# Altium footprint library PASSIVE_SMD.PCBLIB: 249 footprints (part 6 of 16)
Each footprint in its own frame and in the unit in brackets; x right, y up, seen from the top. Pads: shape width x height; smd on the part's side, far side on the other; paste and mask are expansions set on the pad; w line width, h text height; cw(c..) or ccw(c..) is an arc to the next point about the centre after c.
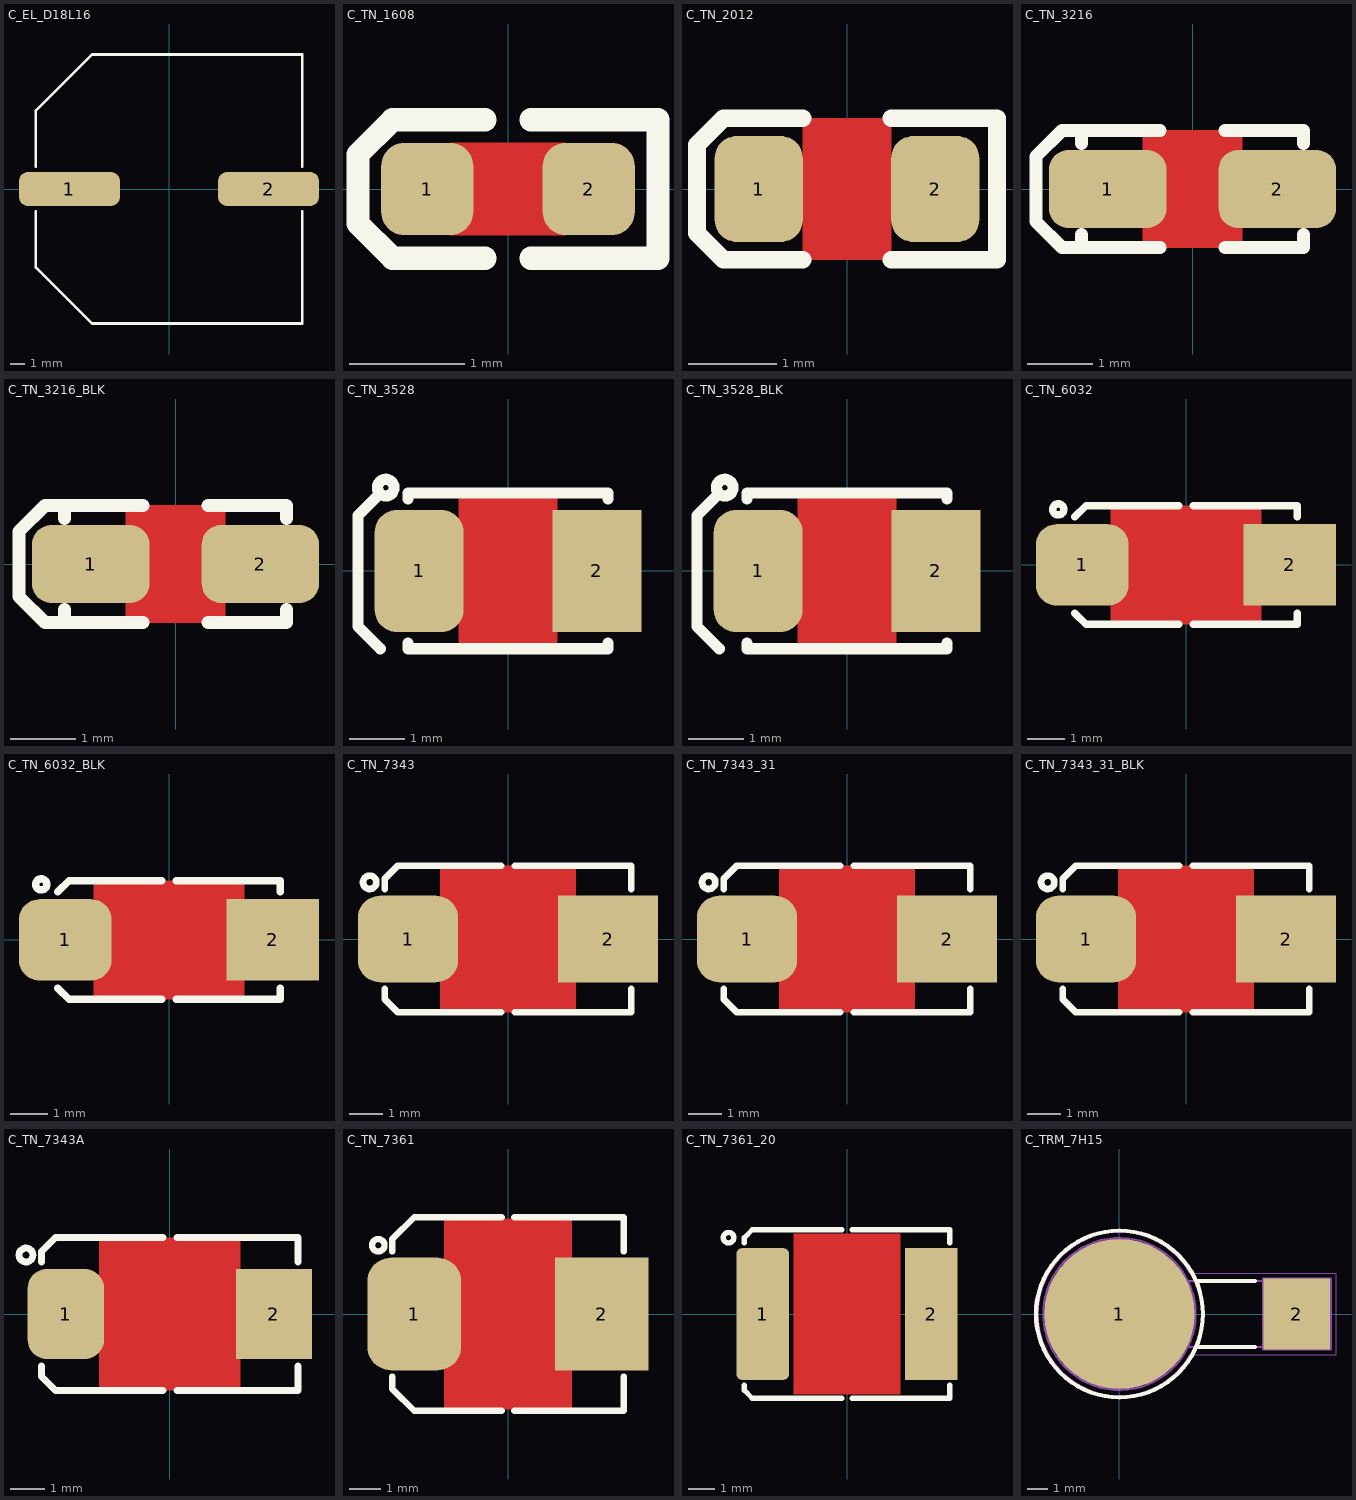
[diagram p5: the footprints below, top view; thin cyan lines are the x and y axes]

## C_EL_D18L16 [mm] "Electrolytic Cap, 18x16.5mm, size K"
height 17
pads (2):
  rrect50% 7.2x2.4 smd: 1(-7.1,0) 2(7.1,0)
Top Overlay:
  lines w0.2: -9.5,-1.6 -9.5,-5.6 -5.5,-9.6 9.5,-9.6 9.5,-1.6 ; -9.5,1.6 -9.5,5.6 -5.5,9.6 9.5,9.6 9.5,1.6
3D body "CAPAE1900X1700N.stp": height 16.5, standoff 0, extent -10.2,-9.5 10.2,9.5

## C_TN_1608 [mm] "CAPACITOR, TAN M, 1.6X0.8mm, 0603"
height 0.6
pads (2):
  rrect50% 0.8x0.8 smd paste-5 mask+0.075: 1(-0.7,0) 2(0.7,0)
Top Layer:
  pour cut-out: -0.5,0.4 0.5,0.4 0.5,-0.4 -0.5,-0.4
Top Overlay:
  lines w0.2: -0.2,-0.6 -1,-0.6 -1.3,-0.3 -1.3,0.3 -1,0.6 -0.2,0.6 ; 0.2,-0.6 1.3,-0.6 1.3,0.6 0.2,0.6
Top Paste:
  region: -0.7,0.35 -0.63,0.35 -0.502,0.297 -0.403,0.198 -0.35,0.07 -0.35,0 -0.35,-0.07 -0.403,-0.198 -0.502,-0.297 -0.63,-0.35 -0.7,-0.35 -0.9,-0.35 -0.93,-0.35 -0.985,-0.327 -1.027,-0.285 -1.05,-0.23 -1.05,-0.2 -1.05,0.2 -1.05,0.23 -1.027,0.285 -0.985,0.327 -0.93,0.35 -0.9,0.35
  region: 0.7,0.35 0.63,0.35 0.502,0.297 0.403,0.198 0.35,0.07 0.35,0 0.35,-0.07 0.403,-0.198 0.502,-0.297 0.63,-0.35 0.7,-0.35 0.9,-0.35 0.93,-0.35 0.985,-0.327 1.027,-0.285 1.05,-0.23 1.05,-0.2 1.05,0.2 1.05,0.23 1.027,0.285 0.985,0.327 0.93,0.35 0.9,0.35
3D body "CAP_TC_M_0603.step": height 0.89, standoff 0, extent -0.851,-0.47 0.851,0.47

## C_TN_2012 [mm] "CAPACITOR, TAN N, TAN P, TAN R, 0805P, 2X1.3mm"
pads (2):
  rrect50% 1x1.2 smd paste-0.089 mask+0.075: 1(-1,0) 2(1,0)
Top Layer:
  pour cut-out: -0.5,0.8 0.5,0.8 0.5,-0.8 -0.5,-0.8
Top Overlay:
  lines w0.2: -0.5,-0.8 -1.4,-0.8 -1.7,-0.5 -1.7,0.5 -1.4,0.8 -0.5,0.8 ; 0.5,-0.8 1.7,-0.8 1.7,0.8 0.5,0.8
3D body "User Library-Tantalum Capacitor Case R.STEP": height 1.35, standoff 0, extent -1.042,-0.685 1.208,0.665

## C_TN_3216 [mm] "CAPACITOR, TAN A, 1206P, 3.2x1.6mm"
height 1.8
pads (2):
  rrect50% 1.8x1.2 smd paste-0.118 mask+0.075: 1(-1.3,0) 2(1.3,0)
Top Layer:
  pour cut-out: -0.762,0.9 0.762,0.9 0.762,-0.9 -0.762,-0.9
Top Overlay:
  lines w0.2: -1.7,-0.7 -1.7,-0.9 ; -1.7,0.7 -1.7,0.9 ; -0.5,-0.9 -1.7,-0.9 ; -0.5,0.9 -1.7,0.9 ; 0.5,-0.9 1.7,-0.9 1.7,-0.7 ; 0.5,0.9 1.7,0.9 1.7,0.7 ; -1.7,-0.9 -2,-0.9 -2.4,-0.5 -2.4,0.5 -2,0.9 -1.7,0.9
3D body "User Library-CAP_TANT_3216-18_A_case-1.step": height 1.7, standoff 0, extent -1.7,-0.9 1.7,0.9

## C_TN_3216_BLK [mm] "CAPACITOR, TAN A, 3.2x1.6mm, BLACK"
height 1.8
pads (2):
  rrect50% 1.8x1.2 smd paste-0.118 mask+0.075: 1(-1.3,0) 2(1.3,0)
Top Layer:
  pour cut-out: -0.762,0.9 0.762,0.9 0.762,-0.9 -0.762,-0.9
Top Overlay:
  lines w0.2: -1.7,-0.7 -1.7,-0.9 ; -1.7,0.7 -1.7,0.9 ; -0.5,-0.9 -1.7,-0.9 ; -0.5,0.9 -1.7,0.9 ; 0.5,-0.9 1.7,-0.9 1.7,-0.7 ; 0.5,0.9 1.7,0.9 1.7,0.7 ; -1.7,-0.9 -2,-0.9 -2.4,-0.5 -2.4,0.5 -2,0.9 -1.7,0.9
3D body "CAPM-TANTA-BK.stp": height 1.8, standoff 0, extent -1.7,-0.9 1.7,0.9

## C_TN_3528 [mm] "CAPACITOR, TAN B, TAN H, TAN T, TAN M, 3528P, 1210P, 3.5X2.8mm"
pads (2):
  rrect50% 1.6x2.2 smd paste-0.152 mask+0.1: 1(-1.6,0)
  rect 1.6x2.2 smd paste-0.151 mask+0.1: 2(1.6,0)
Top Layer:
  pour cut-out: -0.889,1.4 -0.889,-1.4 0.889,-1.4 0.889,1.4
Top Overlay:
  circle w0.2: c-2.2,1.5 r0.15
  lines w0.2: -2.35,1.35 -2.7,1 -2.7,-1 -2.3,-1.4 ; -1.8,-1.3 -1.8,-1.4 1.8,-1.4 1.8,-1.3 ; -1.8,1.3 -1.8,1.4 1.8,1.4 1.8,1.3
3D body "User Library-AVX_BCASE.step": height 2.03, standoff 0, extent -1.85,-1.465 1.85,1.465

## C_TN_3528_BLK [mm] "CAPACITOR, TAN B, 3.5X2.8mm, BLACK"
pads (2):
  rrect50% 1.6x2.2 smd paste-0.152 mask+0.1: 1(-1.6,0)
  rect 1.6x2.2 smd paste-0.151 mask+0.1: 2(1.6,0)
Top Layer:
  pour cut-out: -0.889,1.4 -0.889,-1.4 0.889,-1.4 0.889,1.4
Top Overlay:
  circle w0.2: c-2.2,1.5 r0.15
  lines w0.2: -2.35,1.35 -2.7,1 -2.7,-1 -2.3,-1.4 ; -1.8,-1.3 -1.8,-1.4 1.8,-1.4 1.8,-1.3 ; -1.8,1.3 -1.8,1.4 1.8,1.4 1.8,1.3
3D body "CAPM-TANTB-BK.stp": height 2.1, standoff 0, extent -1.85,-1.5 1.85,1.5

## C_TN_6032 [mm] "CAPACITOR, TAN C, TAN F, TAN U, TAN L, 6032P, 6.0X3.2mm"
height 2.8
pads (2):
  rrect50% 2.5x2.2 smd paste-0.2: 1(-2.8,0)
  rect 2.5x2.2 smd paste-0.2: 2(2.8,0)
Top Layer:
  pour cut-out: -2.032,1.6 2.032,1.6 2.032,-1.6 -2.032,-1.6
Top Overlay:
  circle w0.2: c-3.45,1.5 r0.15
  lines w0.2: -3,-1.3 -2.7,-1.6 -0.2,-1.6 ; -3,1.3 -2.7,1.6 -0.2,1.6 ; 0.2,-1.6 3,-1.6 3,-1.3 ; 0.2,1.6 3,1.6 3,1.3
3D body "User Library-CAP_TANT_6032-28_y.step": height 2.8, standoff 0, extent -3.15,-1.75 3.15,1.75

## C_TN_6032_BLK [mm] "CAPACITOR, TAN C, 6.0X3.2mm, BLACK"
pads (2):
  rrect50% 2.5x2.2 smd paste-0.2: 1(-2.8,0)
  rect 2.5x2.2 smd paste-0.2: 2(2.8,0)
Top Layer:
  pour cut-out: -2.032,1.6 2.032,1.6 2.032,-1.6 -2.032,-1.6
Top Overlay:
  circle w0.2: c-3.45,1.5 r0.15
  lines w0.2: -3,-1.3 -2.7,-1.6 -0.2,-1.6 ; -3,1.3 -2.7,1.6 -0.2,1.6 ; 0.2,-1.6 3,-1.6 3,-1.3 ; 0.2,1.6 3,1.6 3,1.3
3D body "CAPM-TANTC-BK.stp": height 2.7, standoff 0, extent -3.1,-1.7 3.1,1.7

## C_TN_7343 [mm] "CAPACITOR, TAN D, TAN E, TAN Y, TAN X, 7343P, 7.3X4.3mm"
height 4.3
pads (2):
  rrect50% 3x2.6 smd paste-0.2: 1(-3,0)
  rect 3x2.6 smd paste-0.2: 2(3,0)
Top Layer:
  pour cut-out: -2.032,2.2 -2.032,-2.2 2.032,-2.2 2.032,2.2
Top Overlay:
  circle w0.2: c-4.15,1.7 r0.2
  lines w0.2: -3.7,-1.5 -3.7,-1.8 -3.3,-2.2 -0.2,-2.2 ; -3.7,1.5 -3.7,1.8 -3.3,2.2 -0.2,2.2 ; 0.2,-2.2 3.7,-2.2 3.7,-1.5 ; 0.2,2.2 3.7,2.2 3.7,1.5
3D body "User Library-AVX_E_CASE.step": height 4.2, standoff 0, extent -3.7,-2.225 3.701,2.225

## C_TN_7343_31 [mm] "CAPACITOR, TAN D, TAN E, TAN Y, TAN X, 7343P, 7.3X4.3mm"
height 3.1
pads (2):
  rrect50% 3x2.6 smd paste-0.2: 1(-3,0)
  rect 3x2.6 smd paste-0.2: 2(3,0)
Top Layer:
  pour cut-out: -2.032,2.2 -2.032,-2.2 2.032,-2.2 2.032,2.2
Top Overlay:
  circle w0.2: c-4.15,1.7 r0.2
  lines w0.2: -3.7,-1.5 -3.7,-1.8 -3.3,-2.2 -0.2,-2.2 ; -3.7,1.5 -3.7,1.8 -3.3,2.2 -0.2,2.2 ; 0.2,-2.2 3.7,-2.2 3.7,-1.5 ; 0.2,2.2 3.7,2.2 3.7,1.5
3D body "SW3dPS-cap_d.STEP": height 2.81, standoff 0, extent -3.647,-2.15 3.647,2.15

## C_TN_7343_31_BLK [mm] "CAPACITOR, TAN D, 7.3X4.3mm, BLACK"
height 3.1
pads (2):
  rrect50% 3x2.6 smd paste-0.2: 1(-3,0)
  rect 3x2.6 smd paste-0.2: 2(3,0)
Top Layer:
  pour cut-out: -2.032,2.2 -2.032,-2.2 2.032,-2.2 2.032,2.2
Top Overlay:
  circle w0.2: c-4.15,1.7 r0.2
  lines w0.2: -3.7,-1.5 -3.7,-1.8 -3.3,-2.2 -0.2,-2.2 ; -3.7,1.5 -3.7,1.8 -3.3,2.2 -0.2,2.2 ; 0.2,-2.2 3.7,-2.2 3.7,-1.5 ; 0.2,2.2 3.7,2.2 3.7,1.5
3D body "CAPM-TANTN-BK.stp": height 3, standoff 0, extent -3.75,-2.25 3.75,2.25

## C_TN_7343A [mm] "CAPACITOR, TAN D, TAN E, TAN Y, TAN X, 7343P, 7.3X4.3mm"
height 4.3
pads (2):
  rrect50% 2.2x2.6 smd: 1(-3,0)
  rect 2.2x2.6 smd: 2(3,0)
Top Layer:
  pour cut-out: -2.032,2.2 -2.032,-2.2 2.032,-2.2 2.032,2.2
Top Overlay:
  circle w0.2: c-4.15,1.7 r0.2
  lines w0.2: -3.7,-1.5 -3.7,-1.8 -3.3,-2.2 -0.2,-2.2 ; -3.7,1.5 -3.7,1.8 -3.3,2.2 -0.2,2.2 ; 0.2,-2.2 3.7,-2.2 3.7,-1.5 ; 0.2,2.2 3.7,2.2 3.7,1.5
3D body "User Library-AVX_E_CASE.step": height 4.2, standoff 0, extent -3.7,-2.225 3.701,2.225

## C_TN_7361 [mm] "CAPACITOR, TAN V, 2924, 7361, 7.3X6.1mm"
pads (2):
  rrect50% 3x3.6 smd paste-0.25: 1(-3,0)
  rect 3x3.6 smd paste-0.25: 2(3,0)
Top Layer:
  pour cut-out: -2.032,3.048 -2.032,-3.048 2.032,-3.048 2.032,3.048
Top Overlay:
  circle w0.2: c-4.15,2.2 r0.2
  lines w0.2: -3.7,-2 -3.7,-2.4 -3,-3.1 -0.2,-3.1 ; -3.7,2 -3.7,2.4 -3,3.1 -0.2,3.1 ; 0.2,-3.1 3.7,-3.1 3.7,-2 ; 0.2,3.1 3.7,3.1 3.7,2
3D body "User Library-CT_V.step": height 3.45, standoff 0, extent -3.65,-3.05 3.65,3.05

## C_TN_7361_20 [mm] "CAPACITOR, TAN 4, TAN 8, 2924, 7361-20, 7.3X6.1x2mm"
height 2
pads (2):
  rrect20% 2x5 smd paste-1: 1(-3.2,0)
  rect 2x5 smd paste-1: 2(3.2,0)
Top Layer:
  pour cut-out: -2.032,3.048 -2.032,-3.048 2.032,-3.048 2.032,3.048
Top Overlay:
  circle w0.2: c-4.5,2.9 r0.2
  lines w0.2: -3.9,-2.7 -3.9,-2.9 -3.6,-3.2 -0.2,-3.2 ; -3.9,2.7 -3.9,2.9 -3.6,3.2 -0.2,3.2 ; 0.2,-3.2 3.9,-3.2 3.9,-2.7 ; 0.2,3.2 3.9,3.2 3.9,2.7
Top Paste:
  region: 2.5,-2.4 3.9,-2.4 3.94,-2.4 4.013,-2.37 4.07,-2.313 4.1,-2.24 4.1,-2.2 4.1,-1.6 2.3,-1.6 2.3,-2.2 2.3,-2.24 2.33,-2.313 2.387,-2.37 2.46,-2.4
  region: 2.3,-0.2 4.1,-0.2 4.1,-1.2 2.3,-1.2
  region: 2.5,2.4 3.9,2.4 3.94,2.4 4.013,2.37 4.07,2.313 4.1,2.24 4.1,2.2 4.1,1.6 2.3,1.6 2.3,2.2 2.3,2.24 2.33,2.313 2.387,2.37 2.46,2.4
  region: 2.3,0.2 4.1,0.2 4.1,1.2 2.3,1.2
  region: -2.5,-2.4 -3.9,-2.4 -3.94,-2.4 -4.013,-2.37 -4.07,-2.313 -4.1,-2.24 -4.1,-2.2 -4.1,-1.6 -2.3,-1.6 -2.3,-2.2 -2.3,-2.24 -2.33,-2.313 -2.387,-2.37 -2.46,-2.4
  region: -2.3,-0.2 -4.1,-0.2 -4.1,-1.2 -2.3,-1.2
  region: -2.5,2.4 -3.9,2.4 -3.94,2.4 -4.013,2.37 -4.07,2.313 -4.1,2.24 -4.1,2.2 -4.1,1.6 -2.3,1.6 -2.3,2.2 -2.3,2.24 -2.33,2.313 -2.387,2.37 -2.46,2.4
  region: -2.3,0.2 -4.1,0.2 -4.1,1.2 -2.3,1.2
3D body "TAN_H_7360.step": height 2, standoff -0.01, extent -3.81,-3.15 3.8,3.15

## C_TRM_7H15 [mm] "Cap Air, Trimmer JOHANSON 1585, >8 Turn, 7.1x H 14.8mm"
height 14.78
pads (2):
  round 7.2 smd: 1(0,0)
  rect 3.2x3.4 smd: 2(8.5,0)
Top Overlay:
  circle w0.2: c0,0 r4
  lines w0.2: 3.7,-1.587 6.5,-1.587 ; 3.7,1.587 6.5,1.587
Mechanical 8:
  circle w0.1: c0,0 r3.65
  lines w0.1: -0.5,0 0,0 ; 0,-0.5 0,0 ; 0,0.5 0,0 ; 0.5,0 0,0 ; 8.009,0 8.509,0 ; 8.509,-0.5 8.509,0 ; 8.509,0.5 8.509,0 ; 9.009,0 8.509,0 ; 6.884,-1.7 6.884,1.7 10.134,1.7 10.134,-1.7 6.884,-1.7
Mechanical 14:
  circle w0.1: c0,0 r3.556
  circle w0.1: c0,0 r2.675
  circle w0.1: c0,0 r2.205
  lines w0.1: -1.813,1.247 1.247,-1.813 ; -1.247,1.813 1.813,-1.247 ; 3.182,-1.587 9.97,-1.587 9.97,1.587 3.182,1.587
Mechanical 15:
  lines w0.05: 3.377,-1.95 cw(c0,0) 3.377,1.95 10.384,1.95 10.384,-1.95 3.377,-1.95
3D body "CAPV_JOHANSON_1585.stp": height 14.48, standoff 0, extent -3.556,-3.554 9.97,3.554